# Altium footprint library PcbLib1.PcbLib: 1 footprints
Each footprint in its own frame and in the unit in brackets; x right, y up, seen from the top. Pads: shape width x height; smd on the part's side, far side on the other; paste and mask are expansions set on the pad; w line width, h text height; cw(c..) or ccw(c..) is an arc to the next point about the centre after c.
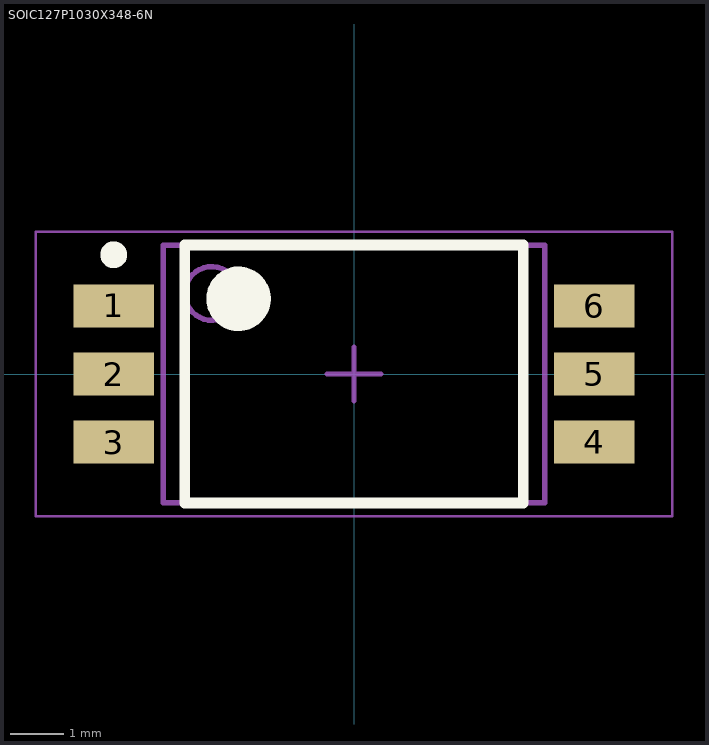
[diagram p0: the footprint, top view; thin cyan lines are the x and y axes]

## SOIC127P1030X348-6N [mm] "SOIC, 6-Leads, Body 4.50x6.80mm, Pitch 1.27mm, IPC Medium Density"
height 3.48
pads (6):
  rect 1.5x0.8 smd: 1(-4.475,1.27) 2(-4.475,0) 3(-4.475,-1.27) 4(4.475,-1.27) 5(4.475,0) 6(4.475,1.27)
Top Overlay:
  circle w0.6: c-2.15,1.4 r0.3
  circle w0.25: c-4.475,2.22 r0.125
  lines w0.2: -3.15,-2.4 3.15,-2.4 3.15,2.4 -3.15,2.4 -3.15,-2.4
Mechanical 13:
  circle w0.1: c-2.65,1.5 r0.5
  lines w0.1: -3.55,-2.4 3.55,-2.4 3.55,2.4 -3.55,2.4 -3.55,-2.4
Mechanical 15:
  lines w0.05: -5.925,-2.65 5.925,-2.65 5.925,2.65 -5.925,2.65 -5.925,-2.65
  lines w0.1: -0.5,0 0.5,0 ; 0,-0.5 0,0.5
3D body: height 3.48, standoff 0.1, extent -3.55,-2.4 3.55,2.4